# Altium schematic symbol library DG409.SchLib: 1 symbol
Pins are listed as number, name and electrical type; pins without a type are passive.

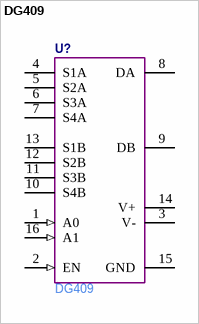
[diagram p0: symbol DG409]

## DG409
designator U?  Manufacturer Part Number: DG409  (hidden comment: *)
pins: 1 A0 (in), 2 EN (in), 3 V-, 4 S1A, 5 S2A, 6 S3A, 7 S4A, 8 DA, 9 DB, 10 S4B, 11 S3B, 12 S2B, 13 S1B, 14 V+, 15 GND, 16 A1 (in)